# EAGLE library part OSL741501-ARA (library mita-akiba)
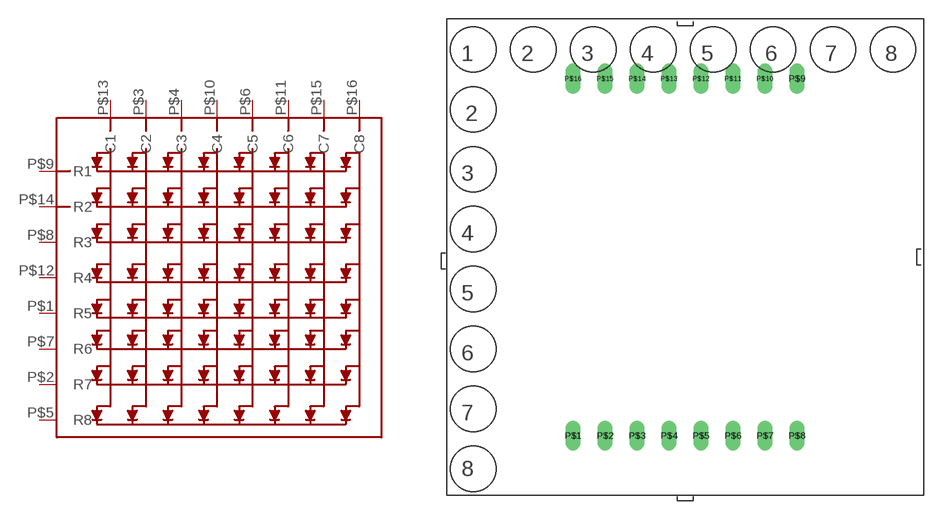
[diagram p68: symbol with the pads of LED8X8MTRX3MM75; footprint LED8X8MTRX3MM75]

Designator prefix -

## OSL741501-ARA  [LED8X8MTRX3MM75]
P$1  R5
P$2  R7
P$3  C2
P$4  C3
P$5  R8
P$6  C5
P$7  R6
P$8  R3
P$9  R1
P$10  C4
P$11  C6
P$12  R4
P$13  C1
P$14  R2
P$15  C7
P$16  C8

## Footprint LED8X8MTRX3MM75 (pad centres in mm)
drill 0.7 long: P$1 -8.89,-14.2; P$2 -6.35,-14.2; P$3 -3.81,-14.2; P$4 -1.27,-14.2; P$5 1.27,-14.2; P$6 3.81,-14.2; P$7 6.35,-14.2; P$8 8.89,-14.2; P$9 8.89,14.2; P$10 6.35,14.2; P$11 3.81,14.2; P$12 1.27,14.2; P$13 -1.27,14.2; P$14 -3.81,14.2; P$15 -6.35,14.2; P$16 -8.89,14.2